# Altium schematic symbol library kmilo17pet-NSC_Switcher.SchLib: 2226 symbols (part 13 of 59)
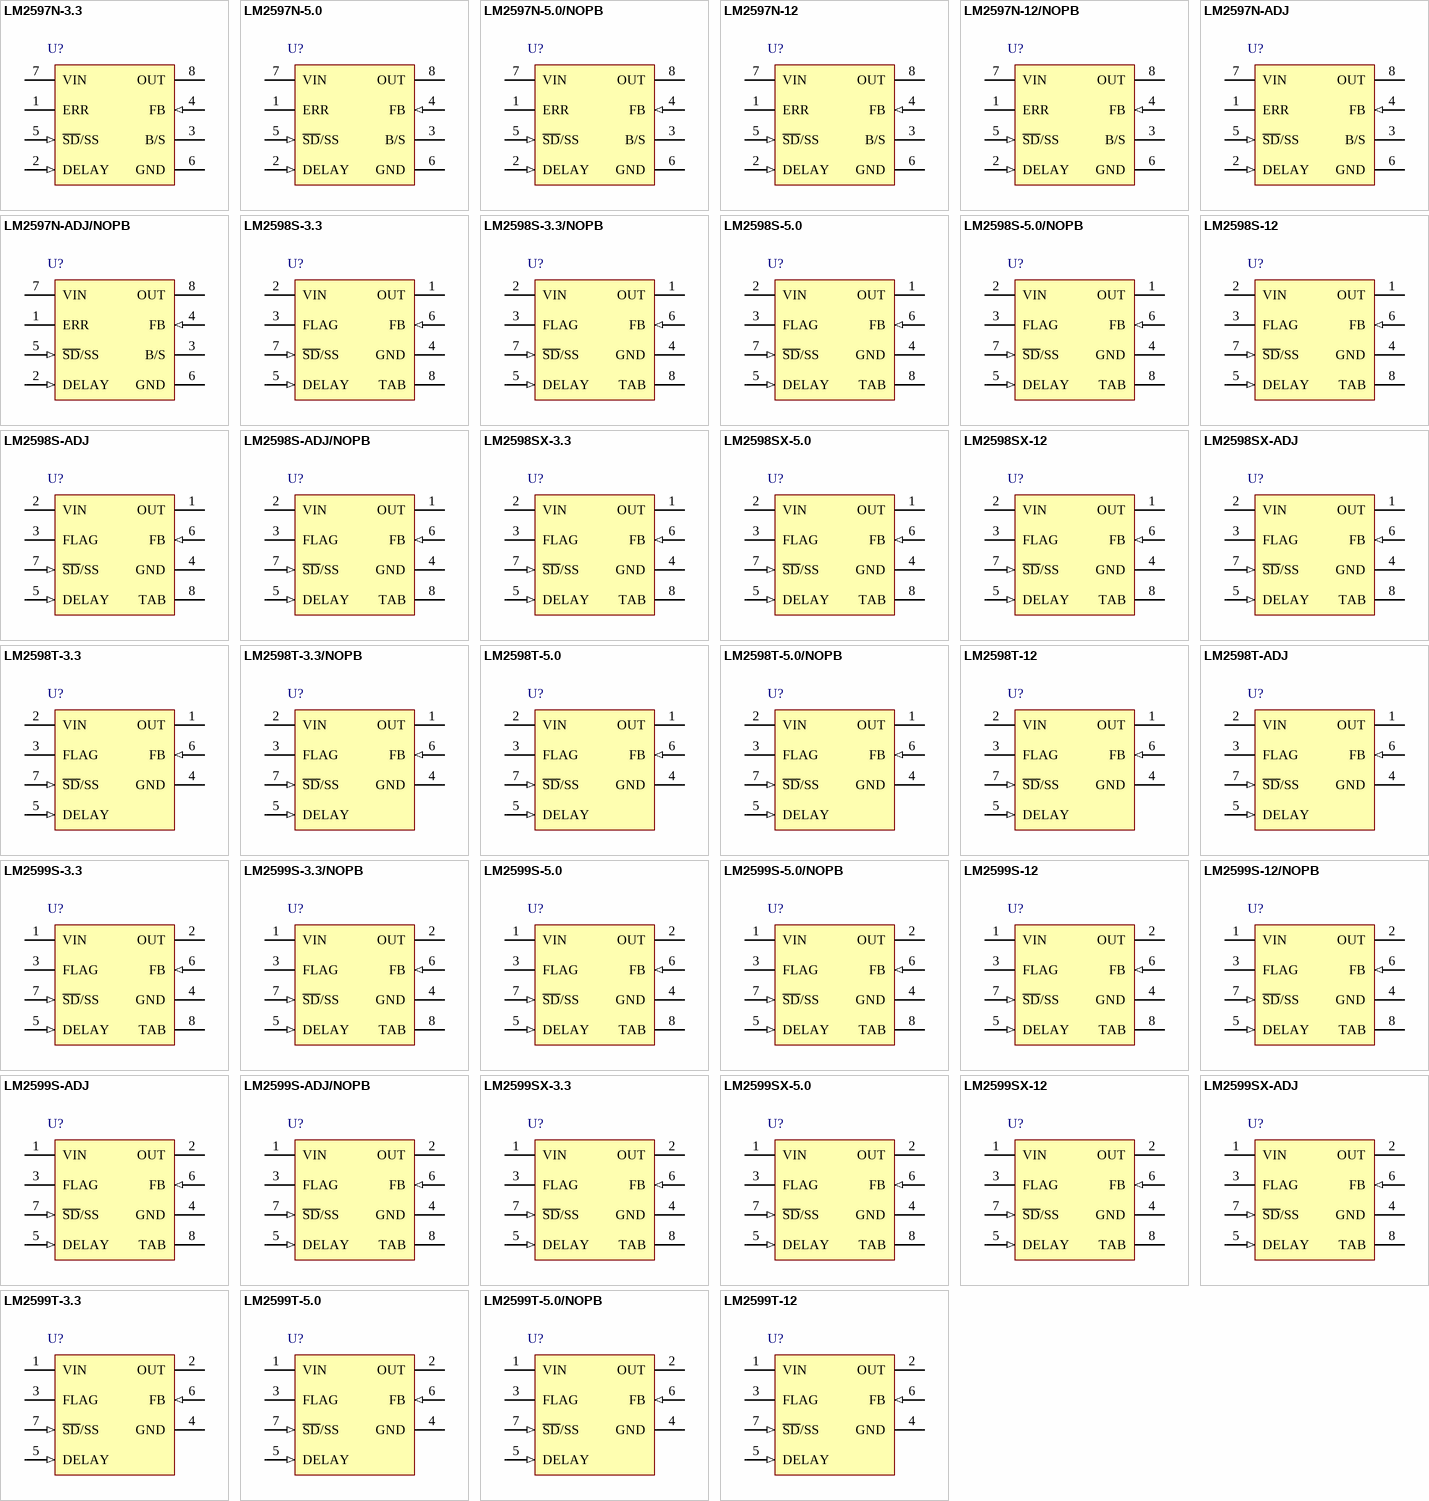
[diagram p81: symbols LM2597N-3.3 to LM2599T-12]

## LM2597N-5.0/NOPB
designator U?
SIMPLE SWITCHER® Power Converter 150 kHz 0.5A Step-Down Voltage Regulator, 8-pin MDIP, Pb-Free; PartNumber: LM2597N-5.0/NOPB; Manufacturer: National Semiconductor; PackageTopMarking: NSUZXYTTE#*LM2597N*-5.0 P+; PowerWise: N; High-Reliability: Y; DatasheetVersion: Dec-2000; PackageVersion: revG, May-2006; PackageReference: N08E; PackageDescription: MDIP, .365 x .250 x .130in, 8 Lead, .100in Pitch; RoHS: Y; PinCount: 8; CompType: Switcher; Code_JEDEC: MS-001-BA; ComponentLink1Description: Manufacturer URL; ComponentLink1URL: http://www.national.com/; ComponentLink2Description: LM2597 Datasheet; ComponentLink2URL: http://www.national.com/ds/LM/LM2597.pdf; ComponentLink3Description: LM2597 Web Page; ComponentLink3URL: http://www.national.com/pf/LM/LM2597.html; ComponentLink4Description: N08E Package Page; ComponentLink4URL: http://www.national.com/packaging/folders/n08e.html
footprint N08E (DIP, 8-Leads, Row Spacing 7.62mm, Pitch 2.54mm, Body 9.91x6.35mm)
pins: 1 ERR (oc), 2 DELAY (in), 3 B/S (power), 4 FB (in), 5 ~{SD}/SS (in), 6 GND (power), 7 VIN (power), 8 OUT (power)

## LM2597N-12
designator U?
SIMPLE SWITCHER® Power Converter 150 kHz 0.5A Step-Down Voltage Regulator, 8-pin MDIP; PartNumber: LM2597N-12; Manufacturer: National Semiconductor; PackageTopMarking: NSUZXYTTE#*LM2597N*-12 P+; PowerWise: N; High-Reliability: Y; DatasheetVersion: Dec-2000; PackageVersion: revG, May-2006; PackageReference: N08E; PackageDescription: MDIP, .365 x .250 x .130in, 8 Lead, .100in Pitch; RoHS: N; PinCount: 8; CompType: Switcher; Code_JEDEC: MS-001-BA; ComponentLink1Description: Manufacturer URL; ComponentLink1URL: http://www.national.com/; ComponentLink2Description: LM2597 Datasheet; ComponentLink2URL: http://www.national.com/ds/LM/LM2597.pdf; ComponentLink3Description: LM2597 Web Page; ComponentLink3URL: http://www.national.com/pf/LM/LM2597.html; ComponentLink4Description: N08E Package Page; ComponentLink4URL: http://www.national.com/packaging/folders/n08e.html
footprint N08E (DIP, 8-Leads, Row Spacing 7.62mm, Pitch 2.54mm, Body 9.91x6.35mm)
pins: 1 ERR (oc), 2 DELAY (in), 3 B/S (power), 4 FB (in), 5 ~{SD}/SS (in), 6 GND (power), 7 VIN (power), 8 OUT (power)

## LM2597N-12/NOPB
designator U?
SIMPLE SWITCHER® Power Converter 150 kHz 0.5A Step-Down Voltage Regulator, 8-pin MDIP, Pb-Free; PartNumber: LM2597N-12/NOPB; Manufacturer: National Semiconductor; PackageTopMarking: NSUZXYTTE#*LM2597N*-12 P+; PowerWise: N; High-Reliability: Y; DatasheetVersion: Dec-2000; PackageVersion: revG, May-2006; PackageReference: N08E; PackageDescription: MDIP, .365 x .250 x .130in, 8 Lead, .100in Pitch; RoHS: Y; PinCount: 8; CompType: Switcher; Code_JEDEC: MS-001-BA; ComponentLink1Description: Manufacturer URL; ComponentLink1URL: http://www.national.com/; ComponentLink2Description: LM2597 Datasheet; ComponentLink2URL: http://www.national.com/ds/LM/LM2597.pdf; ComponentLink3Description: LM2597 Web Page; ComponentLink3URL: http://www.national.com/pf/LM/LM2597.html; ComponentLink4Description: N08E Package Page; ComponentLink4URL: http://www.national.com/packaging/folders/n08e.html
footprint N08E (DIP, 8-Leads, Row Spacing 7.62mm, Pitch 2.54mm, Body 9.91x6.35mm)
pins: 1 ERR (oc), 2 DELAY (in), 3 B/S (power), 4 FB (in), 5 ~{SD}/SS (in), 6 GND (power), 7 VIN (power), 8 OUT (power)

## LM2597N-ADJ
designator U?
SIMPLE SWITCHER® Power Converter 150 kHz 0.5A Step-Down Voltage Regulator, 8-pin MDIP; PartNumber: LM2597N-ADJ; Manufacturer: National Semiconductor; PackageTopMarking: NSUZXYTTE#*LM2597N*-ADJ P+; PowerWise: N; High-Reliability: Y; DatasheetVersion: Dec-2000; PackageVersion: revG, May-2006; PackageReference: N08E; PackageDescription: MDIP, .365 x .250 x .130in, 8 Lead, .100in Pitch; RoHS: N; PinCount: 8; CompType: Switcher; Code_JEDEC: MS-001-BA; ComponentLink1Description: Manufacturer URL; ComponentLink1URL: http://www.national.com/; ComponentLink2Description: LM2597 Datasheet; ComponentLink2URL: http://www.national.com/ds/LM/LM2597.pdf; ComponentLink3Description: LM2597 Web Page; ComponentLink3URL: http://www.national.com/pf/LM/LM2597.html; ComponentLink4Description: N08E Package Page; ComponentLink4URL: http://www.national.com/packaging/folders/n08e.html
footprint N08E (DIP, 8-Leads, Row Spacing 7.62mm, Pitch 2.54mm, Body 9.91x6.35mm)
pins: 1 ERR (oc), 2 DELAY (in), 3 B/S (power), 4 FB (in), 5 ~{SD}/SS (in), 6 GND (power), 7 VIN (power), 8 OUT (power)

## LM2597N-ADJ/NOPB
designator U?
SIMPLE SWITCHER® Power Converter 150 kHz 0.5A Step-Down Voltage Regulator, 8-pin MDIP, Pb-Free; PartNumber: LM2597N-ADJ/NOPB; Manufacturer: National Semiconductor; PackageTopMarking: NSUZXYTTE#*LM2597N*-ADJ P+; PowerWise: N; High-Reliability: Y; DatasheetVersion: Dec-2000; PackageVersion: revG, May-2006; PackageReference: N08E; PackageDescription: MDIP, .365 x .250 x .130in, 8 Lead, .100in Pitch; RoHS: Y; PinCount: 8; CompType: Switcher; Code_JEDEC: MS-001-BA; ComponentLink1Description: Manufacturer URL; ComponentLink1URL: http://www.national.com/; ComponentLink2Description: LM2597 Datasheet; ComponentLink2URL: http://www.national.com/ds/LM/LM2597.pdf; ComponentLink3Description: LM2597 Web Page; ComponentLink3URL: http://www.national.com/pf/LM/LM2597.html; ComponentLink4Description: N08E Package Page; ComponentLink4URL: http://www.national.com/packaging/folders/n08e.html
footprint N08E (DIP, 8-Leads, Row Spacing 7.62mm, Pitch 2.54mm, Body 9.91x6.35mm)
pins: 1 ERR (oc), 2 DELAY (in), 3 B/S (power), 4 FB (in), 5 ~{SD}/SS (in), 6 GND (power), 7 VIN (power), 8 OUT (power)

## LM2598S-3.3
designator U?
SIMPLE SWITCHER® Power Converter 150 KHz 1A Step-Down Voltage Regulator with Features, 7-pin TO-263; PartNumber: LM2598S-3.3; Manufacturer: National Semiconductor; PackageTopMarking: NSUZXYTTE#*LM2598S*-3.3 P+; PowerWise: N; High-Reliability: Y; DatasheetVersion: Jan-2001; PackageVersion: revE, Jul-2003; PackageReference: TS7B; PackageDescription: TO-263, Molded, .400 x .390 x .180in Body, 7 Lead, .050in Pitch, Surface Mount; RoHS: N; PinCount: 7; CompType: Switcher; Code_JEDEC: MO-169-AC; ComponentLink1Description: Manufacturer URL; ComponentLink1URL: http://www.national.com/; ComponentLink2Description: LM2598 Datasheet; ComponentLink2URL: http://www.national.com/ds/LM/LM2598.pdf; ComponentLink3Description: LM2598 Web Page; ComponentLink3URL: http://www.national.com/pf/LM/LM2598.html; ComponentLink4Description: TS7B Package Page; ComponentLink4URL: http://www.national.com/packaging/folders/ts7b.html
footprint TS7B_N (D2-PAK, 8-Leads, Body 8.6x10.2mm, Pitch 1.27mm, Lead Span 14.1mm, IPC Medium Density)
footprint TS7B_L (D2-PAK, 8-Leads, Body 8.6x10.2mm, Pitch 1.27mm, Lead Span 14.1mm, IPC High Density)
footprint TS7B_M (D2-PAK, 8-Leads, Body 8.6x10.2mm, Pitch 1.27mm, Lead Span 14.1mm, IPC Low Density)
pins: 1 OUT (power), 2 VIN (power), 3 FLAG (oc), 4 GND (power), 5 DELAY (in), 6 FB (in), 7 ~{SD}/SS (in), 8 TAB (power)

## LM2598S-3.3/NOPB
designator U?
SIMPLE SWITCHER® Power Converter 150 KHz 1A Step-Down Voltage Regulator with Features, 7-pin TO-263, Pb-Free; PartNumber: LM2598S-3.3/NOPB; Manufacturer: National Semiconductor; PackageTopMarking: NSUZXYTTE#*LM2598S*-3.3 P+; PowerWise: N; High-Reliability: Y; DatasheetVersion: Jan-2001; PackageVersion: revE, Jul-2003; PackageReference: TS7B; PackageDescription: TO-263, Molded, .400 x .390 x .180in Body, 7 Lead, .050in Pitch, Surface Mount; RoHS: Y; PinCount: 7; CompType: Switcher; Code_JEDEC: MO-169-AC; ComponentLink1Description: Manufacturer URL; ComponentLink1URL: http://www.national.com/; ComponentLink2Description: LM2598 Datasheet; ComponentLink2URL: http://www.national.com/ds/LM/LM2598.pdf; ComponentLink3Description: LM2598 Web Page; ComponentLink3URL: http://www.national.com/pf/LM/LM2598.html; ComponentLink4Description: TS7B Package Page; ComponentLink4URL: http://www.national.com/packaging/folders/ts7b.html
footprint TS7B_N (D2-PAK, 8-Leads, Body 8.6x10.2mm, Pitch 1.27mm, Lead Span 14.1mm, IPC Medium Density)
footprint TS7B_L (D2-PAK, 8-Leads, Body 8.6x10.2mm, Pitch 1.27mm, Lead Span 14.1mm, IPC High Density)
footprint TS7B_M (D2-PAK, 8-Leads, Body 8.6x10.2mm, Pitch 1.27mm, Lead Span 14.1mm, IPC Low Density)
pins: 1 OUT (power), 2 VIN (power), 3 FLAG (oc), 4 GND (power), 5 DELAY (in), 6 FB (in), 7 ~{SD}/SS (in), 8 TAB (power)

## LM2598S-5.0
designator U?
SIMPLE SWITCHER® Power Converter 150 KHz 1A Step-Down Voltage Regulator with Features, 7-pin TO-263; PartNumber: LM2598S-5.0; Manufacturer: National Semiconductor; PackageTopMarking: NSUZXYTTE#*LM2598S*-5.0 P+; PowerWise: N; High-Reliability: Y; DatasheetVersion: Jan-2001; PackageVersion: revE, Jul-2003; PackageReference: TS7B; PackageDescription: TO-263, Molded, .400 x .390 x .180in Body, 7 Lead, .050in Pitch, Surface Mount; RoHS: N; PinCount: 7; CompType: Switcher; Code_JEDEC: MO-169-AC; ComponentLink1Description: Manufacturer URL; ComponentLink1URL: http://www.national.com/; ComponentLink2Description: LM2598 Datasheet; ComponentLink2URL: http://www.national.com/ds/LM/LM2598.pdf; ComponentLink3Description: LM2598 Web Page; ComponentLink3URL: http://www.national.com/pf/LM/LM2598.html; ComponentLink4Description: TS7B Package Page; ComponentLink4URL: http://www.national.com/packaging/folders/ts7b.html
footprint TS7B_N (D2-PAK, 8-Leads, Body 8.6x10.2mm, Pitch 1.27mm, Lead Span 14.1mm, IPC Medium Density)
footprint TS7B_L (D2-PAK, 8-Leads, Body 8.6x10.2mm, Pitch 1.27mm, Lead Span 14.1mm, IPC High Density)
footprint TS7B_M (D2-PAK, 8-Leads, Body 8.6x10.2mm, Pitch 1.27mm, Lead Span 14.1mm, IPC Low Density)
pins: 1 OUT (power), 2 VIN (power), 3 FLAG (oc), 4 GND (power), 5 DELAY (in), 6 FB (in), 7 ~{SD}/SS (in), 8 TAB (power)

## LM2598S-5.0/NOPB
designator U?
SIMPLE SWITCHER® Power Converter 150 KHz 1A Step-Down Voltage Regulator with Features, 7-pin TO-263, Pb-Free; PartNumber: LM2598S-5.0/NOPB; Manufacturer: National Semiconductor; PackageTopMarking: NSUZXYTTE#*LM2598S*-5.0 P+; PowerWise: N; High-Reliability: Y; DatasheetVersion: Jan-2001; PackageVersion: revE, Jul-2003; PackageReference: TS7B; PackageDescription: TO-263, Molded, .400 x .390 x .180in Body, 7 Lead, .050in Pitch, Surface Mount; RoHS: Y; PinCount: 7; CompType: Switcher; Code_JEDEC: MO-169-AC; ComponentLink1Description: Manufacturer URL; ComponentLink1URL: http://www.national.com/; ComponentLink2Description: LM2598 Datasheet; ComponentLink2URL: http://www.national.com/ds/LM/LM2598.pdf; ComponentLink3Description: LM2598 Web Page; ComponentLink3URL: http://www.national.com/pf/LM/LM2598.html; ComponentLink4Description: TS7B Package Page; ComponentLink4URL: http://www.national.com/packaging/folders/ts7b.html
footprint TS7B_N (D2-PAK, 8-Leads, Body 8.6x10.2mm, Pitch 1.27mm, Lead Span 14.1mm, IPC Medium Density)
footprint TS7B_L (D2-PAK, 8-Leads, Body 8.6x10.2mm, Pitch 1.27mm, Lead Span 14.1mm, IPC High Density)
footprint TS7B_M (D2-PAK, 8-Leads, Body 8.6x10.2mm, Pitch 1.27mm, Lead Span 14.1mm, IPC Low Density)
pins: 1 OUT (power), 2 VIN (power), 3 FLAG (oc), 4 GND (power), 5 DELAY (in), 6 FB (in), 7 ~{SD}/SS (in), 8 TAB (power)

## LM2598S-12
designator U?
SIMPLE SWITCHER® Power Converter 150 KHz 1A Step-Down Voltage Regulator with Features, 7-pin TO-263; PartNumber: LM2598S-12; Manufacturer: National Semiconductor; PackageTopMarking: NSUZXYTTE#*LM2598S*-12 P+; PowerWise: N; High-Reliability: Y; DatasheetVersion: Jan-2001; PackageVersion: revE, Jul-2003; PackageReference: TS7B; PackageDescription: TO-263, Molded, .400 x .390 x .180in Body, 7 Lead, .050in Pitch, Surface Mount; RoHS: N; PinCount: 7; CompType: Switcher; Code_JEDEC: MO-169-AC; ComponentLink1Description: Manufacturer URL; ComponentLink1URL: http://www.national.com/; ComponentLink2Description: LM2598 Datasheet; ComponentLink2URL: http://www.national.com/ds/LM/LM2598.pdf; ComponentLink3Description: LM2598 Web Page; ComponentLink3URL: http://www.national.com/pf/LM/LM2598.html; ComponentLink4Description: TS7B Package Page; ComponentLink4URL: http://www.national.com/packaging/folders/ts7b.html
footprint TS7B_N (D2-PAK, 8-Leads, Body 8.6x10.2mm, Pitch 1.27mm, Lead Span 14.1mm, IPC Medium Density)
footprint TS7B_L (D2-PAK, 8-Leads, Body 8.6x10.2mm, Pitch 1.27mm, Lead Span 14.1mm, IPC High Density)
footprint TS7B_M (D2-PAK, 8-Leads, Body 8.6x10.2mm, Pitch 1.27mm, Lead Span 14.1mm, IPC Low Density)
pins: 1 OUT (power), 2 VIN (power), 3 FLAG (oc), 4 GND (power), 5 DELAY (in), 6 FB (in), 7 ~{SD}/SS (in), 8 TAB (power)

## LM2598S-ADJ
designator U?
SIMPLE SWITCHER® Power Converter 150 KHz 1A Step-Down Voltage Regulator with Features, 7-pin TO-263; PartNumber: LM2598S-ADJ; Manufacturer: National Semiconductor; PackageTopMarking: NSUZXYTTE#*LM2598S*-ADJ P+; PowerWise: N; High-Reliability: Y; DatasheetVersion: Jan-2001; PackageVersion: revE, Jul-2003; PackageReference: TS7B; PackageDescription: TO-263, Molded, .400 x .390 x .180in Body, 7 Lead, .050in Pitch, Surface Mount; RoHS: N; PinCount: 7; CompType: Switcher; Code_JEDEC: MO-169-AC; ComponentLink1Description: Manufacturer URL; ComponentLink1URL: http://www.national.com/; ComponentLink2Description: LM2598 Datasheet; ComponentLink2URL: http://www.national.com/ds/LM/LM2598.pdf; ComponentLink3Description: LM2598 Web Page; ComponentLink3URL: http://www.national.com/pf/LM/LM2598.html; ComponentLink4Description: TS7B Package Page; ComponentLink4URL: http://www.national.com/packaging/folders/ts7b.html
footprint TS7B_N (D2-PAK, 8-Leads, Body 8.6x10.2mm, Pitch 1.27mm, Lead Span 14.1mm, IPC Medium Density)
footprint TS7B_L (D2-PAK, 8-Leads, Body 8.6x10.2mm, Pitch 1.27mm, Lead Span 14.1mm, IPC High Density)
footprint TS7B_M (D2-PAK, 8-Leads, Body 8.6x10.2mm, Pitch 1.27mm, Lead Span 14.1mm, IPC Low Density)
pins: 1 OUT (power), 2 VIN (power), 3 FLAG (oc), 4 GND (power), 5 DELAY (in), 6 FB (in), 7 ~{SD}/SS (in), 8 TAB (power)

## LM2598S-ADJ/NOPB
designator U?
SIMPLE SWITCHER® Power Converter 150 KHz 1A Step-Down Voltage Regulator with Features, 7-pin TO-263, Pb-Free; PartNumber: LM2598S-ADJ/NOPB; Manufacturer: National Semiconductor; PackageTopMarking: NSUZXYTTE#*LM2598S*-ADJ P+; PowerWise: N; High-Reliability: Y; DatasheetVersion: Jan-2001; PackageVersion: revE, Jul-2003; PackageReference: TS7B; PackageDescription: TO-263, Molded, .400 x .390 x .180in Body, 7 Lead, .050in Pitch, Surface Mount; RoHS: Y; PinCount: 7; CompType: Switcher; Code_JEDEC: MO-169-AC; ComponentLink1Description: Manufacturer URL; ComponentLink1URL: http://www.national.com/; ComponentLink2Description: LM2598 Datasheet; ComponentLink2URL: http://www.national.com/ds/LM/LM2598.pdf; ComponentLink3Description: LM2598 Web Page; ComponentLink3URL: http://www.national.com/pf/LM/LM2598.html; ComponentLink4Description: TS7B Package Page; ComponentLink4URL: http://www.national.com/packaging/folders/ts7b.html
footprint TS7B_N (D2-PAK, 8-Leads, Body 8.6x10.2mm, Pitch 1.27mm, Lead Span 14.1mm, IPC Medium Density)
footprint TS7B_L (D2-PAK, 8-Leads, Body 8.6x10.2mm, Pitch 1.27mm, Lead Span 14.1mm, IPC High Density)
footprint TS7B_M (D2-PAK, 8-Leads, Body 8.6x10.2mm, Pitch 1.27mm, Lead Span 14.1mm, IPC Low Density)
pins: 1 OUT (power), 2 VIN (power), 3 FLAG (oc), 4 GND (power), 5 DELAY (in), 6 FB (in), 7 ~{SD}/SS (in), 8 TAB (power)

## LM2598SX-3.3
designator U?
SIMPLE SWITCHER® Power Converter 150 KHz 1A Step-Down Voltage Regulator with Features, 7-pin TO-263; PartNumber: LM2598SX-3.3; Manufacturer: National Semiconductor; PackageTopMarking: NSUZXYTTE#*LM2598S*-3.3 P+; PowerWise: N; High-Reliability: Y; DatasheetVersion: Jan-2001; PackageVersion: revE, Jul-2003; PackageReference: TS7B; PackageDescription: TO-263, Molded, .400 x .390 x .180in Body, 7 Lead, .050in Pitch, Surface Mount; RoHS: N; PinCount: 7; CompType: Switcher; Code_JEDEC: MO-169-AC; ComponentLink1Description: Manufacturer URL; ComponentLink1URL: http://www.national.com/; ComponentLink2Description: LM2598 Datasheet; ComponentLink2URL: http://www.national.com/ds/LM/LM2598.pdf; ComponentLink3Description: LM2598 Web Page; ComponentLink3URL: http://www.national.com/pf/LM/LM2598.html; ComponentLink4Description: TS7B Package Page; ComponentLink4URL: http://www.national.com/packaging/folders/ts7b.html
footprint TS7B_N (D2-PAK, 8-Leads, Body 8.6x10.2mm, Pitch 1.27mm, Lead Span 14.1mm, IPC Medium Density)
footprint TS7B_L (D2-PAK, 8-Leads, Body 8.6x10.2mm, Pitch 1.27mm, Lead Span 14.1mm, IPC High Density)
footprint TS7B_M (D2-PAK, 8-Leads, Body 8.6x10.2mm, Pitch 1.27mm, Lead Span 14.1mm, IPC Low Density)
pins: 1 OUT (power), 2 VIN (power), 3 FLAG (oc), 4 GND (power), 5 DELAY (in), 6 FB (in), 7 ~{SD}/SS (in), 8 TAB (power)

## LM2598SX-5.0
designator U?
SIMPLE SWITCHER® Power Converter 150 KHz 1A Step-Down Voltage Regulator with Features, 7-pin TO-263; PartNumber: LM2598SX-5.0; Manufacturer: National Semiconductor; PackageTopMarking: NSUZXYTTE#*LM2598S*-5.0 P+; PowerWise: N; High-Reliability: Y; DatasheetVersion: Jan-2001; PackageVersion: revE, Jul-2003; PackageReference: TS7B; PackageDescription: TO-263, Molded, .400 x .390 x .180in Body, 7 Lead, .050in Pitch, Surface Mount; RoHS: N; PinCount: 7; CompType: Switcher; Code_JEDEC: MO-169-AC; ComponentLink1Description: Manufacturer URL; ComponentLink1URL: http://www.national.com/; ComponentLink2Description: LM2598 Datasheet; ComponentLink2URL: http://www.national.com/ds/LM/LM2598.pdf; ComponentLink3Description: LM2598 Web Page; ComponentLink3URL: http://www.national.com/pf/LM/LM2598.html; ComponentLink4Description: TS7B Package Page; ComponentLink4URL: http://www.national.com/packaging/folders/ts7b.html
footprint TS7B_N (D2-PAK, 8-Leads, Body 8.6x10.2mm, Pitch 1.27mm, Lead Span 14.1mm, IPC Medium Density)
footprint TS7B_L (D2-PAK, 8-Leads, Body 8.6x10.2mm, Pitch 1.27mm, Lead Span 14.1mm, IPC High Density)
footprint TS7B_M (D2-PAK, 8-Leads, Body 8.6x10.2mm, Pitch 1.27mm, Lead Span 14.1mm, IPC Low Density)
pins: 1 OUT (power), 2 VIN (power), 3 FLAG (oc), 4 GND (power), 5 DELAY (in), 6 FB (in), 7 ~{SD}/SS (in), 8 TAB (power)

## LM2598SX-12
designator U?
SIMPLE SWITCHER® Power Converter 150 KHz 1A Step-Down Voltage Regulator with Features, 7-pin TO-263; PartNumber: LM2598SX-12; Manufacturer: National Semiconductor; PackageTopMarking: NSUZXYTTE#*LM2598S*-12 P+; PowerWise: N; High-Reliability: Y; DatasheetVersion: Jan-2001; PackageVersion: revE, Jul-2003; PackageReference: TS7B; PackageDescription: TO-263, Molded, .400 x .390 x .180in Body, 7 Lead, .050in Pitch, Surface Mount; RoHS: N; PinCount: 7; CompType: Switcher; Code_JEDEC: MO-169-AC; ComponentLink1Description: Manufacturer URL; ComponentLink1URL: http://www.national.com/; ComponentLink2Description: LM2598 Datasheet; ComponentLink2URL: http://www.national.com/ds/LM/LM2598.pdf; ComponentLink3Description: LM2598 Web Page; ComponentLink3URL: http://www.national.com/pf/LM/LM2598.html; ComponentLink4Description: TS7B Package Page; ComponentLink4URL: http://www.national.com/packaging/folders/ts7b.html
footprint TS7B_N (D2-PAK, 8-Leads, Body 8.6x10.2mm, Pitch 1.27mm, Lead Span 14.1mm, IPC Medium Density)
footprint TS7B_L (D2-PAK, 8-Leads, Body 8.6x10.2mm, Pitch 1.27mm, Lead Span 14.1mm, IPC High Density)
footprint TS7B_M (D2-PAK, 8-Leads, Body 8.6x10.2mm, Pitch 1.27mm, Lead Span 14.1mm, IPC Low Density)
pins: 1 OUT (power), 2 VIN (power), 3 FLAG (oc), 4 GND (power), 5 DELAY (in), 6 FB (in), 7 ~{SD}/SS (in), 8 TAB (power)

## LM2598SX-ADJ
designator U?
SIMPLE SWITCHER® Power Converter 150 KHz 1A Step-Down Voltage Regulator with Features, 7-pin TO-263; PartNumber: LM2598SX-ADJ; Manufacturer: National Semiconductor; PackageTopMarking: NSUZXYTTE#*LM2598S*-ADJ P+; PowerWise: N; High-Reliability: Y; DatasheetVersion: Jan-2001; PackageVersion: revE, Jul-2003; PackageReference: TS7B; PackageDescription: TO-263, Molded, .400 x .390 x .180in Body, 7 Lead, .050in Pitch, Surface Mount; RoHS: N; PinCount: 7; CompType: Switcher; Code_JEDEC: MO-169-AC; ComponentLink1Description: Manufacturer URL; ComponentLink1URL: http://www.national.com/; ComponentLink2Description: LM2598 Datasheet; ComponentLink2URL: http://www.national.com/ds/LM/LM2598.pdf; ComponentLink3Description: LM2598 Web Page; ComponentLink3URL: http://www.national.com/pf/LM/LM2598.html; ComponentLink4Description: TS7B Package Page; ComponentLink4URL: http://www.national.com/packaging/folders/ts7b.html
footprint TS7B_N (D2-PAK, 8-Leads, Body 8.6x10.2mm, Pitch 1.27mm, Lead Span 14.1mm, IPC Medium Density)
footprint TS7B_L (D2-PAK, 8-Leads, Body 8.6x10.2mm, Pitch 1.27mm, Lead Span 14.1mm, IPC High Density)
footprint TS7B_M (D2-PAK, 8-Leads, Body 8.6x10.2mm, Pitch 1.27mm, Lead Span 14.1mm, IPC Low Density)
pins: 1 OUT (power), 2 VIN (power), 3 FLAG (oc), 4 GND (power), 5 DELAY (in), 6 FB (in), 7 ~{SD}/SS (in), 8 TAB (power)

## LM2598T-3.3
designator U?
SIMPLE SWITCHER® Power Converter 150 KHz 1A Step-Down Voltage Regulator with Features, 7-pin TO-220; PartNumber: LM2598T-3.3; Manufacturer: National Semiconductor; PackageTopMarking: NSUZXYTTE#*LM2598T*-3.3 P+; PowerWise: N; High-Reliability: Y; DatasheetVersion: Jan-2001; PackageVersion: revC, Apr-1999; PackageReference: TA07B; PackageDescription: TO-220, Molded, .400 x .590 x .180in Body, 7 Lead, .050in Pitch, Staggered; RoHS: N; PinCount: 7; CompType: Switcher; Code_JEDEC: TO-220-AB; ComponentLink1Description: Manufacturer URL; ComponentLink1URL: http://www.national.com/; ComponentLink2Description: LM2598 Datasheet; ComponentLink2URL: http://www.national.com/ds/LM/LM2598.pdf; ComponentLink3Description: LM2598 Web Page; ComponentLink3URL: http://www.national.com/pf/LM/LM2598.html; ComponentLink4Description: TA07B Package Page; ComponentLink4URL: http://www.national.com/packaging/folders/ta07b.html
footprint TA07B (TO, Thru-Hole, Vertical, Heatsink Mounted; 7 Bent Staggered Leads; Body 10.2x8.7x4.6mm, Pitch 1.27 mm)
pins: 1 OUT (power), 2 VIN (power), 3 FLAG (oc), 4 GND (power), 5 DELAY (in), 6 FB (in), 7 ~{SD}/SS (in)

## LM2598T-3.3/NOPB
designator U?
SIMPLE SWITCHER® Power Converter 150 KHz 1A Step-Down Voltage Regulator with Features, 7-pin TO-220, Pb-Free; PartNumber: LM2598T-3.3/NOPB; Manufacturer: National Semiconductor; PackageTopMarking: NSUZXYTTE#*LM2598T*-3.3 P+; PowerWise: N; High-Reliability: Y; DatasheetVersion: Jan-2001; PackageVersion: revC, Apr-1999; PackageReference: TA07B; PackageDescription: TO-220, Molded, .400 x .590 x .180in Body, 7 Lead, .050in Pitch, Staggered; RoHS: Y; PinCount: 7; CompType: Switcher; Code_JEDEC: TO-220-AB; ComponentLink1Description: Manufacturer URL; ComponentLink1URL: http://www.national.com/; ComponentLink2Description: LM2598 Datasheet; ComponentLink2URL: http://www.national.com/ds/LM/LM2598.pdf; ComponentLink3Description: LM2598 Web Page; ComponentLink3URL: http://www.national.com/pf/LM/LM2598.html; ComponentLink4Description: TA07B Package Page; ComponentLink4URL: http://www.national.com/packaging/folders/ta07b.html
footprint TA07B (TO, Thru-Hole, Vertical, Heatsink Mounted; 7 Bent Staggered Leads; Body 10.2x8.7x4.6mm, Pitch 1.27 mm)
pins: 1 OUT (power), 2 VIN (power), 3 FLAG (oc), 4 GND (power), 5 DELAY (in), 6 FB (in), 7 ~{SD}/SS (in)

## LM2598T-5.0
designator U?
SIMPLE SWITCHER® Power Converter 150 KHz 1A Step-Down Voltage Regulator with Features, 7-pin TO-220; PartNumber: LM2598T-5.0; Manufacturer: National Semiconductor; PackageTopMarking: NSUZXYTTE#*LM2598T*-5.0 P+; PowerWise: N; High-Reliability: Y; DatasheetVersion: Jan-2001; PackageVersion: revC, Apr-1999; PackageReference: TA07B; PackageDescription: TO-220, Molded, .400 x .590 x .180in Body, 7 Lead, .050in Pitch, Staggered; RoHS: N; PinCount: 7; CompType: Switcher; Code_JEDEC: TO-220-AB; ComponentLink1Description: Manufacturer URL; ComponentLink1URL: http://www.national.com/; ComponentLink2Description: LM2598 Datasheet; ComponentLink2URL: http://www.national.com/ds/LM/LM2598.pdf; ComponentLink3Description: LM2598 Web Page; ComponentLink3URL: http://www.national.com/pf/LM/LM2598.html; ComponentLink4Description: TA07B Package Page; ComponentLink4URL: http://www.national.com/packaging/folders/ta07b.html
footprint TA07B (TO, Thru-Hole, Vertical, Heatsink Mounted; 7 Bent Staggered Leads; Body 10.2x8.7x4.6mm, Pitch 1.27 mm)
pins: 1 OUT (power), 2 VIN (power), 3 FLAG (oc), 4 GND (power), 5 DELAY (in), 6 FB (in), 7 ~{SD}/SS (in)

## LM2598T-5.0/NOPB
designator U?
SIMPLE SWITCHER® Power Converter 150 KHz 1A Step-Down Voltage Regulator with Features, 7-pin TO-220, Pb-Free; PartNumber: LM2598T-5.0/NOPB; Manufacturer: National Semiconductor; PackageTopMarking: NSUZXYTTE#*LM2598T*-5.0 P+; PowerWise: N; High-Reliability: Y; DatasheetVersion: Jan-2001; PackageVersion: revC, Apr-1999; PackageReference: TA07B; PackageDescription: TO-220, Molded, .400 x .590 x .180in Body, 7 Lead, .050in Pitch, Staggered; RoHS: Y; PinCount: 7; CompType: Switcher; Code_JEDEC: TO-220-AB; ComponentLink1Description: Manufacturer URL; ComponentLink1URL: http://www.national.com/; ComponentLink2Description: LM2598 Datasheet; ComponentLink2URL: http://www.national.com/ds/LM/LM2598.pdf; ComponentLink3Description: LM2598 Web Page; ComponentLink3URL: http://www.national.com/pf/LM/LM2598.html; ComponentLink4Description: TA07B Package Page; ComponentLink4URL: http://www.national.com/packaging/folders/ta07b.html
footprint TA07B (TO, Thru-Hole, Vertical, Heatsink Mounted; 7 Bent Staggered Leads; Body 10.2x8.7x4.6mm, Pitch 1.27 mm)
pins: 1 OUT (power), 2 VIN (power), 3 FLAG (oc), 4 GND (power), 5 DELAY (in), 6 FB (in), 7 ~{SD}/SS (in)

## LM2598T-12
designator U?
SIMPLE SWITCHER® Power Converter 150 KHz 1A Step-Down Voltage Regulator with Features, 7-pin TO-220; PartNumber: LM2598T-12; Manufacturer: National Semiconductor; PackageTopMarking: NSUZXYTTE#*LM2598T*-12 P+; PowerWise: N; High-Reliability: Y; DatasheetVersion: Jan-2001; PackageVersion: revC, Apr-1999; PackageReference: TA07B; PackageDescription: TO-220, Molded, .400 x .590 x .180in Body, 7 Lead, .050in Pitch, Staggered; RoHS: N; PinCount: 7; CompType: Switcher; Code_JEDEC: TO-220-AB; ComponentLink1Description: Manufacturer URL; ComponentLink1URL: http://www.national.com/; ComponentLink2Description: LM2598 Datasheet; ComponentLink2URL: http://www.national.com/ds/LM/LM2598.pdf; ComponentLink3Description: LM2598 Web Page; ComponentLink3URL: http://www.national.com/pf/LM/LM2598.html; ComponentLink4Description: TA07B Package Page; ComponentLink4URL: http://www.national.com/packaging/folders/ta07b.html
footprint TA07B (TO, Thru-Hole, Vertical, Heatsink Mounted; 7 Bent Staggered Leads; Body 10.2x8.7x4.6mm, Pitch 1.27 mm)
pins: 1 OUT (power), 2 VIN (power), 3 FLAG (oc), 4 GND (power), 5 DELAY (in), 6 FB (in), 7 ~{SD}/SS (in)

## LM2598T-ADJ
designator U?
SIMPLE SWITCHER® Power Converter 150 KHz 1A Step-Down Voltage Regulator with Features, 7-pin TO-220; PartNumber: LM2598T-ADJ; Manufacturer: National Semiconductor; PackageTopMarking: NSUZXYTTE#*LM2598T*-ADJ P+; PowerWise: N; High-Reliability: Y; DatasheetVersion: Jan-2001; PackageVersion: revC, Apr-1999; PackageReference: TA07B; PackageDescription: TO-220, Molded, .400 x .590 x .180in Body, 7 Lead, .050in Pitch, Staggered; RoHS: N; PinCount: 7; CompType: Switcher; Code_JEDEC: TO-220-AB; ComponentLink1Description: Manufacturer URL; ComponentLink1URL: http://www.national.com/; ComponentLink2Description: LM2598 Datasheet; ComponentLink2URL: http://www.national.com/ds/LM/LM2598.pdf; ComponentLink3Description: LM2598 Web Page; ComponentLink3URL: http://www.national.com/pf/LM/LM2598.html; ComponentLink4Description: TA07B Package Page; ComponentLink4URL: http://www.national.com/packaging/folders/ta07b.html
footprint TA07B (TO, Thru-Hole, Vertical, Heatsink Mounted; 7 Bent Staggered Leads; Body 10.2x8.7x4.6mm, Pitch 1.27 mm)
pins: 1 OUT (power), 2 VIN (power), 3 FLAG (oc), 4 GND (power), 5 DELAY (in), 6 FB (in), 7 ~{SD}/SS (in)

## LM2599S-3.3
designator U?
SIMPLE SWITCHER® Power Converter 150 KHz 3A Step-Down Voltage Regulator with Features, 7-pin TO-263; PartNumber: LM2599S-3.3; Manufacturer: National Semiconductor; PackageTopMarking: NSUZXYTTE#*LM2599S*-3.3 P+; PowerWise: N; High-Reliability: Y; DatasheetVersion: Dec-2000; PackageVersion: revE, Jul-2003; PackageReference: TS7B; PackageDescription: TO-263, Molded, .400 x .390 x .180in Body, 7 Lead, .050in Pitch, Surface Mount; RoHS: N; PinCount: 7; CompType: Switcher; Code_JEDEC: MO-169-AC; ComponentLink1Description: Manufacturer URL; ComponentLink1URL: http://www.national.com/; ComponentLink2Description: LM2599 Datasheet; ComponentLink2URL: http://www.national.com/ds/LM/LM2599.pdf; ComponentLink3Description: LM2599 Web Page; ComponentLink3URL: http://www.national.com/pf/LM/LM2599.html; ComponentLink4Description: TS7B Package Page; ComponentLink4URL: http://www.national.com/packaging/folders/ts7b.html
footprint TS7B_N (D2-PAK, 8-Leads, Body 8.6x10.2mm, Pitch 1.27mm, Lead Span 14.1mm, IPC Medium Density)
footprint TS7B_L (D2-PAK, 8-Leads, Body 8.6x10.2mm, Pitch 1.27mm, Lead Span 14.1mm, IPC High Density)
footprint TS7B_M (D2-PAK, 8-Leads, Body 8.6x10.2mm, Pitch 1.27mm, Lead Span 14.1mm, IPC Low Density)
pins: 1 VIN (power), 2 OUT (power), 3 FLAG (oc), 4 GND (power), 5 DELAY (in), 6 FB (in), 7 ~{SD}/SS (in), 8 TAB (power)

## LM2599S-3.3/NOPB
designator U?
SIMPLE SWITCHER® Power Converter 150 KHz 3A Step-Down Voltage Regulator with Features, 7-pin TO-263, Pb-Free; PartNumber: LM2599S-3.3/NOPB; Manufacturer: National Semiconductor; PackageTopMarking: NSUZXYTTE#*LM2599S*-3.3 P+; PowerWise: N; High-Reliability: Y; DatasheetVersion: Dec-2000; PackageVersion: revE, Jul-2003; PackageReference: TS7B; PackageDescription: TO-263, Molded, .400 x .390 x .180in Body, 7 Lead, .050in Pitch, Surface Mount; RoHS: Y; PinCount: 7; CompType: Switcher; Code_JEDEC: MO-169-AC; ComponentLink1Description: Manufacturer URL; ComponentLink1URL: http://www.national.com/; ComponentLink2Description: LM2599 Datasheet; ComponentLink2URL: http://www.national.com/ds/LM/LM2599.pdf; ComponentLink3Description: LM2599 Web Page; ComponentLink3URL: http://www.national.com/pf/LM/LM2599.html; ComponentLink4Description: TS7B Package Page; ComponentLink4URL: http://www.national.com/packaging/folders/ts7b.html
footprint TS7B_N (D2-PAK, 8-Leads, Body 8.6x10.2mm, Pitch 1.27mm, Lead Span 14.1mm, IPC Medium Density)
footprint TS7B_L (D2-PAK, 8-Leads, Body 8.6x10.2mm, Pitch 1.27mm, Lead Span 14.1mm, IPC High Density)
footprint TS7B_M (D2-PAK, 8-Leads, Body 8.6x10.2mm, Pitch 1.27mm, Lead Span 14.1mm, IPC Low Density)
pins: 1 VIN (power), 2 OUT (power), 3 FLAG (oc), 4 GND (power), 5 DELAY (in), 6 FB (in), 7 ~{SD}/SS (in), 8 TAB (power)

## LM2599S-5.0
designator U?
SIMPLE SWITCHER® Power Converter 150 KHz 3A Step-Down Voltage Regulator with Features, 7-pin TO-263; PartNumber: LM2599S-5.0; Manufacturer: National Semiconductor; PackageTopMarking: NSUZXYTTE#*LM2599S*-5.0 P+; PowerWise: N; High-Reliability: Y; DatasheetVersion: Dec-2000; PackageVersion: revE, Jul-2003; PackageReference: TS7B; PackageDescription: TO-263, Molded, .400 x .390 x .180in Body, 7 Lead, .050in Pitch, Surface Mount; RoHS: N; PinCount: 7; CompType: Switcher; Code_JEDEC: MO-169-AC; ComponentLink1Description: Manufacturer URL; ComponentLink1URL: http://www.national.com/; ComponentLink2Description: LM2599 Datasheet; ComponentLink2URL: http://www.national.com/ds/LM/LM2599.pdf; ComponentLink3Description: LM2599 Web Page; ComponentLink3URL: http://www.national.com/pf/LM/LM2599.html; ComponentLink4Description: TS7B Package Page; ComponentLink4URL: http://www.national.com/packaging/folders/ts7b.html
footprint TS7B_N (D2-PAK, 8-Leads, Body 8.6x10.2mm, Pitch 1.27mm, Lead Span 14.1mm, IPC Medium Density)
footprint TS7B_L (D2-PAK, 8-Leads, Body 8.6x10.2mm, Pitch 1.27mm, Lead Span 14.1mm, IPC High Density)
footprint TS7B_M (D2-PAK, 8-Leads, Body 8.6x10.2mm, Pitch 1.27mm, Lead Span 14.1mm, IPC Low Density)
pins: 1 VIN (power), 2 OUT (power), 3 FLAG (oc), 4 GND (power), 5 DELAY (in), 6 FB (in), 7 ~{SD}/SS (in), 8 TAB (power)

## LM2599S-5.0/NOPB
designator U?
SIMPLE SWITCHER® Power Converter 150 KHz 3A Step-Down Voltage Regulator with Features, 7-pin TO-263, Pb-Free; PartNumber: LM2599S-5.0/NOPB; Manufacturer: National Semiconductor; PackageTopMarking: NSUZXYTTE#*LM2599S*-5.0 P+; PowerWise: N; High-Reliability: Y; DatasheetVersion: Dec-2000; PackageVersion: revE, Jul-2003; PackageReference: TS7B; PackageDescription: TO-263, Molded, .400 x .390 x .180in Body, 7 Lead, .050in Pitch, Surface Mount; RoHS: Y; PinCount: 7; CompType: Switcher; Code_JEDEC: MO-169-AC; ComponentLink1Description: Manufacturer URL; ComponentLink1URL: http://www.national.com/; ComponentLink2Description: LM2599 Datasheet; ComponentLink2URL: http://www.national.com/ds/LM/LM2599.pdf; ComponentLink3Description: LM2599 Web Page; ComponentLink3URL: http://www.national.com/pf/LM/LM2599.html; ComponentLink4Description: TS7B Package Page; ComponentLink4URL: http://www.national.com/packaging/folders/ts7b.html
footprint TS7B_N (D2-PAK, 8-Leads, Body 8.6x10.2mm, Pitch 1.27mm, Lead Span 14.1mm, IPC Medium Density)
footprint TS7B_L (D2-PAK, 8-Leads, Body 8.6x10.2mm, Pitch 1.27mm, Lead Span 14.1mm, IPC High Density)
footprint TS7B_M (D2-PAK, 8-Leads, Body 8.6x10.2mm, Pitch 1.27mm, Lead Span 14.1mm, IPC Low Density)
pins: 1 VIN (power), 2 OUT (power), 3 FLAG (oc), 4 GND (power), 5 DELAY (in), 6 FB (in), 7 ~{SD}/SS (in), 8 TAB (power)

## LM2599S-12
designator U?
SIMPLE SWITCHER® Power Converter 150 KHz 3A Step-Down Voltage Regulator with Features, 7-pin TO-263; PartNumber: LM2599S-12; Manufacturer: National Semiconductor; PackageTopMarking: NSUZXYTTE#*LM2599S*-12 P+; PowerWise: N; High-Reliability: Y; DatasheetVersion: Dec-2000; PackageVersion: revE, Jul-2003; PackageReference: TS7B; PackageDescription: TO-263, Molded, .400 x .390 x .180in Body, 7 Lead, .050in Pitch, Surface Mount; RoHS: N; PinCount: 7; CompType: Switcher; Code_JEDEC: MO-169-AC; ComponentLink1Description: Manufacturer URL; ComponentLink1URL: http://www.national.com/; ComponentLink2Description: LM2599 Datasheet; ComponentLink2URL: http://www.national.com/ds/LM/LM2599.pdf; ComponentLink3Description: LM2599 Web Page; ComponentLink3URL: http://www.national.com/pf/LM/LM2599.html; ComponentLink4Description: TS7B Package Page; ComponentLink4URL: http://www.national.com/packaging/folders/ts7b.html
footprint TS7B_N (D2-PAK, 8-Leads, Body 8.6x10.2mm, Pitch 1.27mm, Lead Span 14.1mm, IPC Medium Density)
footprint TS7B_L (D2-PAK, 8-Leads, Body 8.6x10.2mm, Pitch 1.27mm, Lead Span 14.1mm, IPC High Density)
footprint TS7B_M (D2-PAK, 8-Leads, Body 8.6x10.2mm, Pitch 1.27mm, Lead Span 14.1mm, IPC Low Density)
pins: 1 VIN (power), 2 OUT (power), 3 FLAG (oc), 4 GND (power), 5 DELAY (in), 6 FB (in), 7 ~{SD}/SS (in), 8 TAB (power)

## LM2599S-12/NOPB
designator U?
SIMPLE SWITCHER® Power Converter 150 KHz 3A Step-Down Voltage Regulator with Features, 7-pin TO-263, Pb-Free; PartNumber: LM2599S-12/NOPB; Manufacturer: National Semiconductor; PackageTopMarking: NSUZXYTTE#*LM2599S*-12 P+; PowerWise: N; High-Reliability: Y; DatasheetVersion: Dec-2000; PackageVersion: revE, Jul-2003; PackageReference: TS7B; PackageDescription: TO-263, Molded, .400 x .390 x .180in Body, 7 Lead, .050in Pitch, Surface Mount; RoHS: Y; PinCount: 7; CompType: Switcher; Code_JEDEC: MO-169-AC; ComponentLink1Description: Manufacturer URL; ComponentLink1URL: http://www.national.com/; ComponentLink2Description: LM2599 Datasheet; ComponentLink2URL: http://www.national.com/ds/LM/LM2599.pdf; ComponentLink3Description: LM2599 Web Page; ComponentLink3URL: http://www.national.com/pf/LM/LM2599.html; ComponentLink4Description: TS7B Package Page; ComponentLink4URL: http://www.national.com/packaging/folders/ts7b.html
footprint TS7B_N (D2-PAK, 8-Leads, Body 8.6x10.2mm, Pitch 1.27mm, Lead Span 14.1mm, IPC Medium Density)
footprint TS7B_L (D2-PAK, 8-Leads, Body 8.6x10.2mm, Pitch 1.27mm, Lead Span 14.1mm, IPC High Density)
footprint TS7B_M (D2-PAK, 8-Leads, Body 8.6x10.2mm, Pitch 1.27mm, Lead Span 14.1mm, IPC Low Density)
pins: 1 VIN (power), 2 OUT (power), 3 FLAG (oc), 4 GND (power), 5 DELAY (in), 6 FB (in), 7 ~{SD}/SS (in), 8 TAB (power)

## LM2599S-ADJ
designator U?
SIMPLE SWITCHER® Power Converter 150 KHz 3A Step-Down Voltage Regulator with Features, 7-pin TO-263; PartNumber: LM2599S-ADJ; Manufacturer: National Semiconductor; PackageTopMarking: NSUZXYTTE#*LM2599S*-ADJ P+; PowerWise: N; High-Reliability: Y; DatasheetVersion: Dec-2000; PackageVersion: revE, Jul-2003; PackageReference: TS7B; PackageDescription: TO-263, Molded, .400 x .390 x .180in Body, 7 Lead, .050in Pitch, Surface Mount; RoHS: N; PinCount: 7; CompType: Switcher; Code_JEDEC: MO-169-AC; ComponentLink1Description: Manufacturer URL; ComponentLink1URL: http://www.national.com/; ComponentLink2Description: LM2599 Datasheet; ComponentLink2URL: http://www.national.com/ds/LM/LM2599.pdf; ComponentLink3Description: LM2599 Web Page; ComponentLink3URL: http://www.national.com/pf/LM/LM2599.html; ComponentLink4Description: TS7B Package Page; ComponentLink4URL: http://www.national.com/packaging/folders/ts7b.html
footprint TS7B_N (D2-PAK, 8-Leads, Body 8.6x10.2mm, Pitch 1.27mm, Lead Span 14.1mm, IPC Medium Density)
footprint TS7B_L (D2-PAK, 8-Leads, Body 8.6x10.2mm, Pitch 1.27mm, Lead Span 14.1mm, IPC High Density)
footprint TS7B_M (D2-PAK, 8-Leads, Body 8.6x10.2mm, Pitch 1.27mm, Lead Span 14.1mm, IPC Low Density)
pins: 1 VIN (power), 2 OUT (power), 3 FLAG (oc), 4 GND (power), 5 DELAY (in), 6 FB (in), 7 ~{SD}/SS (in), 8 TAB (power)

## LM2599S-ADJ/NOPB
designator U?
SIMPLE SWITCHER® Power Converter 150 KHz 3A Step-Down Voltage Regulator with Features, 7-pin TO-263, Pb-Free; PartNumber: LM2599S-ADJ/NOPB; Manufacturer: National Semiconductor; PackageTopMarking: NSUZXYTTE#*LM2599S*-ADJ P+; PowerWise: N; High-Reliability: Y; DatasheetVersion: Dec-2000; PackageVersion: revE, Jul-2003; PackageReference: TS7B; PackageDescription: TO-263, Molded, .400 x .390 x .180in Body, 7 Lead, .050in Pitch, Surface Mount; RoHS: Y; PinCount: 7; CompType: Switcher; Code_JEDEC: MO-169-AC; ComponentLink1Description: Manufacturer URL; ComponentLink1URL: http://www.national.com/; ComponentLink2Description: LM2599 Datasheet; ComponentLink2URL: http://www.national.com/ds/LM/LM2599.pdf; ComponentLink3Description: LM2599 Web Page; ComponentLink3URL: http://www.national.com/pf/LM/LM2599.html; ComponentLink4Description: TS7B Package Page; ComponentLink4URL: http://www.national.com/packaging/folders/ts7b.html
footprint TS7B_N (D2-PAK, 8-Leads, Body 8.6x10.2mm, Pitch 1.27mm, Lead Span 14.1mm, IPC Medium Density)
footprint TS7B_L (D2-PAK, 8-Leads, Body 8.6x10.2mm, Pitch 1.27mm, Lead Span 14.1mm, IPC High Density)
footprint TS7B_M (D2-PAK, 8-Leads, Body 8.6x10.2mm, Pitch 1.27mm, Lead Span 14.1mm, IPC Low Density)
pins: 1 VIN (power), 2 OUT (power), 3 FLAG (oc), 4 GND (power), 5 DELAY (in), 6 FB (in), 7 ~{SD}/SS (in), 8 TAB (power)

## LM2599SX-3.3
designator U?
SIMPLE SWITCHER® Power Converter 150 KHz 3A Step-Down Voltage Regulator with Features, 7-pin TO-263; PartNumber: LM2599SX-3.3; Manufacturer: National Semiconductor; PackageTopMarking: NSUZXYTTE#*LM2599S*-3.3 P+; PowerWise: N; High-Reliability: Y; DatasheetVersion: Dec-2000; PackageVersion: revE, Jul-2003; PackageReference: TS7B; PackageDescription: TO-263, Molded, .400 x .390 x .180in Body, 7 Lead, .050in Pitch, Surface Mount; RoHS: N; PinCount: 7; CompType: Switcher; Code_JEDEC: MO-169-AC; ComponentLink1Description: Manufacturer URL; ComponentLink1URL: http://www.national.com/; ComponentLink2Description: LM2599 Datasheet; ComponentLink2URL: http://www.national.com/ds/LM/LM2599.pdf; ComponentLink3Description: LM2599 Web Page; ComponentLink3URL: http://www.national.com/pf/LM/LM2599.html; ComponentLink4Description: TS7B Package Page; ComponentLink4URL: http://www.national.com/packaging/folders/ts7b.html
footprint TS7B_N (D2-PAK, 8-Leads, Body 8.6x10.2mm, Pitch 1.27mm, Lead Span 14.1mm, IPC Medium Density)
footprint TS7B_L (D2-PAK, 8-Leads, Body 8.6x10.2mm, Pitch 1.27mm, Lead Span 14.1mm, IPC High Density)
footprint TS7B_M (D2-PAK, 8-Leads, Body 8.6x10.2mm, Pitch 1.27mm, Lead Span 14.1mm, IPC Low Density)
pins: 1 VIN (power), 2 OUT (power), 3 FLAG (oc), 4 GND (power), 5 DELAY (in), 6 FB (in), 7 ~{SD}/SS (in), 8 TAB (power)

## LM2599SX-5.0
designator U?
SIMPLE SWITCHER® Power Converter 150 KHz 3A Step-Down Voltage Regulator with Features, 7-pin TO-263; PartNumber: LM2599SX-5.0; Manufacturer: National Semiconductor; PackageTopMarking: NSUZXYTTE#*LM2599S*-5.0 P+; PowerWise: N; High-Reliability: Y; DatasheetVersion: Dec-2000; PackageVersion: revE, Jul-2003; PackageReference: TS7B; PackageDescription: TO-263, Molded, .400 x .390 x .180in Body, 7 Lead, .050in Pitch, Surface Mount; RoHS: N; PinCount: 7; CompType: Switcher; Code_JEDEC: MO-169-AC; ComponentLink1Description: Manufacturer URL; ComponentLink1URL: http://www.national.com/; ComponentLink2Description: LM2599 Datasheet; ComponentLink2URL: http://www.national.com/ds/LM/LM2599.pdf; ComponentLink3Description: LM2599 Web Page; ComponentLink3URL: http://www.national.com/pf/LM/LM2599.html; ComponentLink4Description: TS7B Package Page; ComponentLink4URL: http://www.national.com/packaging/folders/ts7b.html
footprint TS7B_N (D2-PAK, 8-Leads, Body 8.6x10.2mm, Pitch 1.27mm, Lead Span 14.1mm, IPC Medium Density)
footprint TS7B_L (D2-PAK, 8-Leads, Body 8.6x10.2mm, Pitch 1.27mm, Lead Span 14.1mm, IPC High Density)
footprint TS7B_M (D2-PAK, 8-Leads, Body 8.6x10.2mm, Pitch 1.27mm, Lead Span 14.1mm, IPC Low Density)
pins: 1 VIN (power), 2 OUT (power), 3 FLAG (oc), 4 GND (power), 5 DELAY (in), 6 FB (in), 7 ~{SD}/SS (in), 8 TAB (power)

## LM2599SX-12
designator U?
SIMPLE SWITCHER® Power Converter 150 KHz 3A Step-Down Voltage Regulator with Features, 7-pin TO-263; PartNumber: LM2599SX-12; Manufacturer: National Semiconductor; PackageTopMarking: NSUZXYTTE#*LM2599S*-12 P+; PowerWise: N; High-Reliability: Y; DatasheetVersion: Dec-2000; PackageVersion: revE, Jul-2003; PackageReference: TS7B; PackageDescription: TO-263, Molded, .400 x .390 x .180in Body, 7 Lead, .050in Pitch, Surface Mount; RoHS: N; PinCount: 7; CompType: Switcher; Code_JEDEC: MO-169-AC; ComponentLink1Description: Manufacturer URL; ComponentLink1URL: http://www.national.com/; ComponentLink2Description: LM2599 Datasheet; ComponentLink2URL: http://www.national.com/ds/LM/LM2599.pdf; ComponentLink3Description: LM2599 Web Page; ComponentLink3URL: http://www.national.com/pf/LM/LM2599.html; ComponentLink4Description: TS7B Package Page; ComponentLink4URL: http://www.national.com/packaging/folders/ts7b.html
footprint TS7B_N (D2-PAK, 8-Leads, Body 8.6x10.2mm, Pitch 1.27mm, Lead Span 14.1mm, IPC Medium Density)
footprint TS7B_L (D2-PAK, 8-Leads, Body 8.6x10.2mm, Pitch 1.27mm, Lead Span 14.1mm, IPC High Density)
footprint TS7B_M (D2-PAK, 8-Leads, Body 8.6x10.2mm, Pitch 1.27mm, Lead Span 14.1mm, IPC Low Density)
pins: 1 VIN (power), 2 OUT (power), 3 FLAG (oc), 4 GND (power), 5 DELAY (in), 6 FB (in), 7 ~{SD}/SS (in), 8 TAB (power)

## LM2599SX-ADJ
designator U?
SIMPLE SWITCHER® Power Converter 150 KHz 3A Step-Down Voltage Regulator with Features, 7-pin TO-263; PartNumber: LM2599SX-ADJ; Manufacturer: National Semiconductor; PackageTopMarking: NSUZXYTTE#*LM2599S*-ADJ P+; PowerWise: N; High-Reliability: Y; DatasheetVersion: Dec-2000; PackageVersion: revE, Jul-2003; PackageReference: TS7B; PackageDescription: TO-263, Molded, .400 x .390 x .180in Body, 7 Lead, .050in Pitch, Surface Mount; RoHS: N; PinCount: 7; CompType: Switcher; Code_JEDEC: MO-169-AC; ComponentLink1Description: Manufacturer URL; ComponentLink1URL: http://www.national.com/; ComponentLink2Description: LM2599 Datasheet; ComponentLink2URL: http://www.national.com/ds/LM/LM2599.pdf; ComponentLink3Description: LM2599 Web Page; ComponentLink3URL: http://www.national.com/pf/LM/LM2599.html; ComponentLink4Description: TS7B Package Page; ComponentLink4URL: http://www.national.com/packaging/folders/ts7b.html
footprint TS7B_N (D2-PAK, 8-Leads, Body 8.6x10.2mm, Pitch 1.27mm, Lead Span 14.1mm, IPC Medium Density)
footprint TS7B_L (D2-PAK, 8-Leads, Body 8.6x10.2mm, Pitch 1.27mm, Lead Span 14.1mm, IPC High Density)
footprint TS7B_M (D2-PAK, 8-Leads, Body 8.6x10.2mm, Pitch 1.27mm, Lead Span 14.1mm, IPC Low Density)
pins: 1 VIN (power), 2 OUT (power), 3 FLAG (oc), 4 GND (power), 5 DELAY (in), 6 FB (in), 7 ~{SD}/SS (in), 8 TAB (power)

## LM2599T-3.3
designator U?
SIMPLE SWITCHER® Power Converter 150 KHz 3A Step-Down Voltage Regulator with Features, 7-pin TO-220; PartNumber: LM2599T-3.3; Manufacturer: National Semiconductor; PackageTopMarking: NSUZXYTTE#*LM2599T*-3.3 P+; PowerWise: N; High-Reliability: Y; DatasheetVersion: Dec-2000; PackageVersion: revC, Apr-1999; PackageReference: TA07B; PackageDescription: TO-220, Molded, .400 x .590 x .180in Body, 7 Lead, .050in Pitch, Staggered; RoHS: N; PinCount: 7; CompType: Switcher; Code_JEDEC: TO-220-AB; ComponentLink1Description: Manufacturer URL; ComponentLink1URL: http://www.national.com/; ComponentLink2Description: LM2599 Datasheet; ComponentLink2URL: http://www.national.com/ds/LM/LM2599.pdf; ComponentLink3Description: LM2599 Web Page; ComponentLink3URL: http://www.national.com/pf/LM/LM2599.html; ComponentLink4Description: TA07B Package Page; ComponentLink4URL: http://www.national.com/packaging/folders/ta07b.html
footprint TA07B (TO, Thru-Hole, Vertical, Heatsink Mounted; 7 Bent Staggered Leads; Body 10.2x8.7x4.6mm, Pitch 1.27 mm)
pins: 1 VIN (power), 2 OUT (power), 3 FLAG (oc), 4 GND (power), 5 DELAY (in), 6 FB (in), 7 ~{SD}/SS (in)

## LM2599T-5.0
designator U?
SIMPLE SWITCHER® Power Converter 150 KHz 3A Step-Down Voltage Regulator with Features, 7-pin TO-220; PartNumber: LM2599T-5.0; Manufacturer: National Semiconductor; PackageTopMarking: NSUZXYTTE#*LM2599T*-5.0 P+; PowerWise: N; High-Reliability: Y; DatasheetVersion: Dec-2000; PackageVersion: revC, Apr-1999; PackageReference: TA07B; PackageDescription: TO-220, Molded, .400 x .590 x .180in Body, 7 Lead, .050in Pitch, Staggered; RoHS: N; PinCount: 7; CompType: Switcher; Code_JEDEC: TO-220-AB; ComponentLink1Description: Manufacturer URL; ComponentLink1URL: http://www.national.com/; ComponentLink2Description: LM2599 Datasheet; ComponentLink2URL: http://www.national.com/ds/LM/LM2599.pdf; ComponentLink3Description: LM2599 Web Page; ComponentLink3URL: http://www.national.com/pf/LM/LM2599.html; ComponentLink4Description: TA07B Package Page; ComponentLink4URL: http://www.national.com/packaging/folders/ta07b.html
footprint TA07B (TO, Thru-Hole, Vertical, Heatsink Mounted; 7 Bent Staggered Leads; Body 10.2x8.7x4.6mm, Pitch 1.27 mm)
pins: 1 VIN (power), 2 OUT (power), 3 FLAG (oc), 4 GND (power), 5 DELAY (in), 6 FB (in), 7 ~{SD}/SS (in)

## LM2599T-5.0/NOPB
designator U?
SIMPLE SWITCHER® Power Converter 150 KHz 3A Step-Down Voltage Regulator with Features, 7-pin TO-220, Pb-Free; PartNumber: LM2599T-5.0/NOPB; Manufacturer: National Semiconductor; PackageTopMarking: NSUZXYTTE#*LM2599T*-5.0 P+; PowerWise: N; High-Reliability: Y; DatasheetVersion: Dec-2000; PackageVersion: revC, Apr-1999; PackageReference: TA07B; PackageDescription: TO-220, Molded, .400 x .590 x .180in Body, 7 Lead, .050in Pitch, Staggered; RoHS: Y; PinCount: 7; CompType: Switcher; Code_JEDEC: TO-220-AB; ComponentLink1Description: Manufacturer URL; ComponentLink1URL: http://www.national.com/; ComponentLink2Description: LM2599 Datasheet; ComponentLink2URL: http://www.national.com/ds/LM/LM2599.pdf; ComponentLink3Description: LM2599 Web Page; ComponentLink3URL: http://www.national.com/pf/LM/LM2599.html; ComponentLink4Description: TA07B Package Page; ComponentLink4URL: http://www.national.com/packaging/folders/ta07b.html
footprint TA07B (TO, Thru-Hole, Vertical, Heatsink Mounted; 7 Bent Staggered Leads; Body 10.2x8.7x4.6mm, Pitch 1.27 mm)
pins: 1 VIN (power), 2 OUT (power), 3 FLAG (oc), 4 GND (power), 5 DELAY (in), 6 FB (in), 7 ~{SD}/SS (in)

## LM2599T-12
designator U?
SIMPLE SWITCHER® Power Converter 150 KHz 3A Step-Down Voltage Regulator with Features, 7-pin TO-220; PartNumber: LM2599T-12; Manufacturer: National Semiconductor; PackageTopMarking: NSUZXYTTE#*LM2599T*-12 P+; PowerWise: N; High-Reliability: Y; DatasheetVersion: Dec-2000; PackageVersion: revC, Apr-1999; PackageReference: TA07B; PackageDescription: TO-220, Molded, .400 x .590 x .180in Body, 7 Lead, .050in Pitch, Staggered; RoHS: N; PinCount: 7; CompType: Switcher; Code_JEDEC: TO-220-AB; ComponentLink1Description: Manufacturer URL; ComponentLink1URL: http://www.national.com/; ComponentLink2Description: LM2599 Datasheet; ComponentLink2URL: http://www.national.com/ds/LM/LM2599.pdf; ComponentLink3Description: LM2599 Web Page; ComponentLink3URL: http://www.national.com/pf/LM/LM2599.html; ComponentLink4Description: TA07B Package Page; ComponentLink4URL: http://www.national.com/packaging/folders/ta07b.html
footprint TA07B (TO, Thru-Hole, Vertical, Heatsink Mounted; 7 Bent Staggered Leads; Body 10.2x8.7x4.6mm, Pitch 1.27 mm)
pins: 1 VIN (power), 2 OUT (power), 3 FLAG (oc), 4 GND (power), 5 DELAY (in), 6 FB (in), 7 ~{SD}/SS (in)

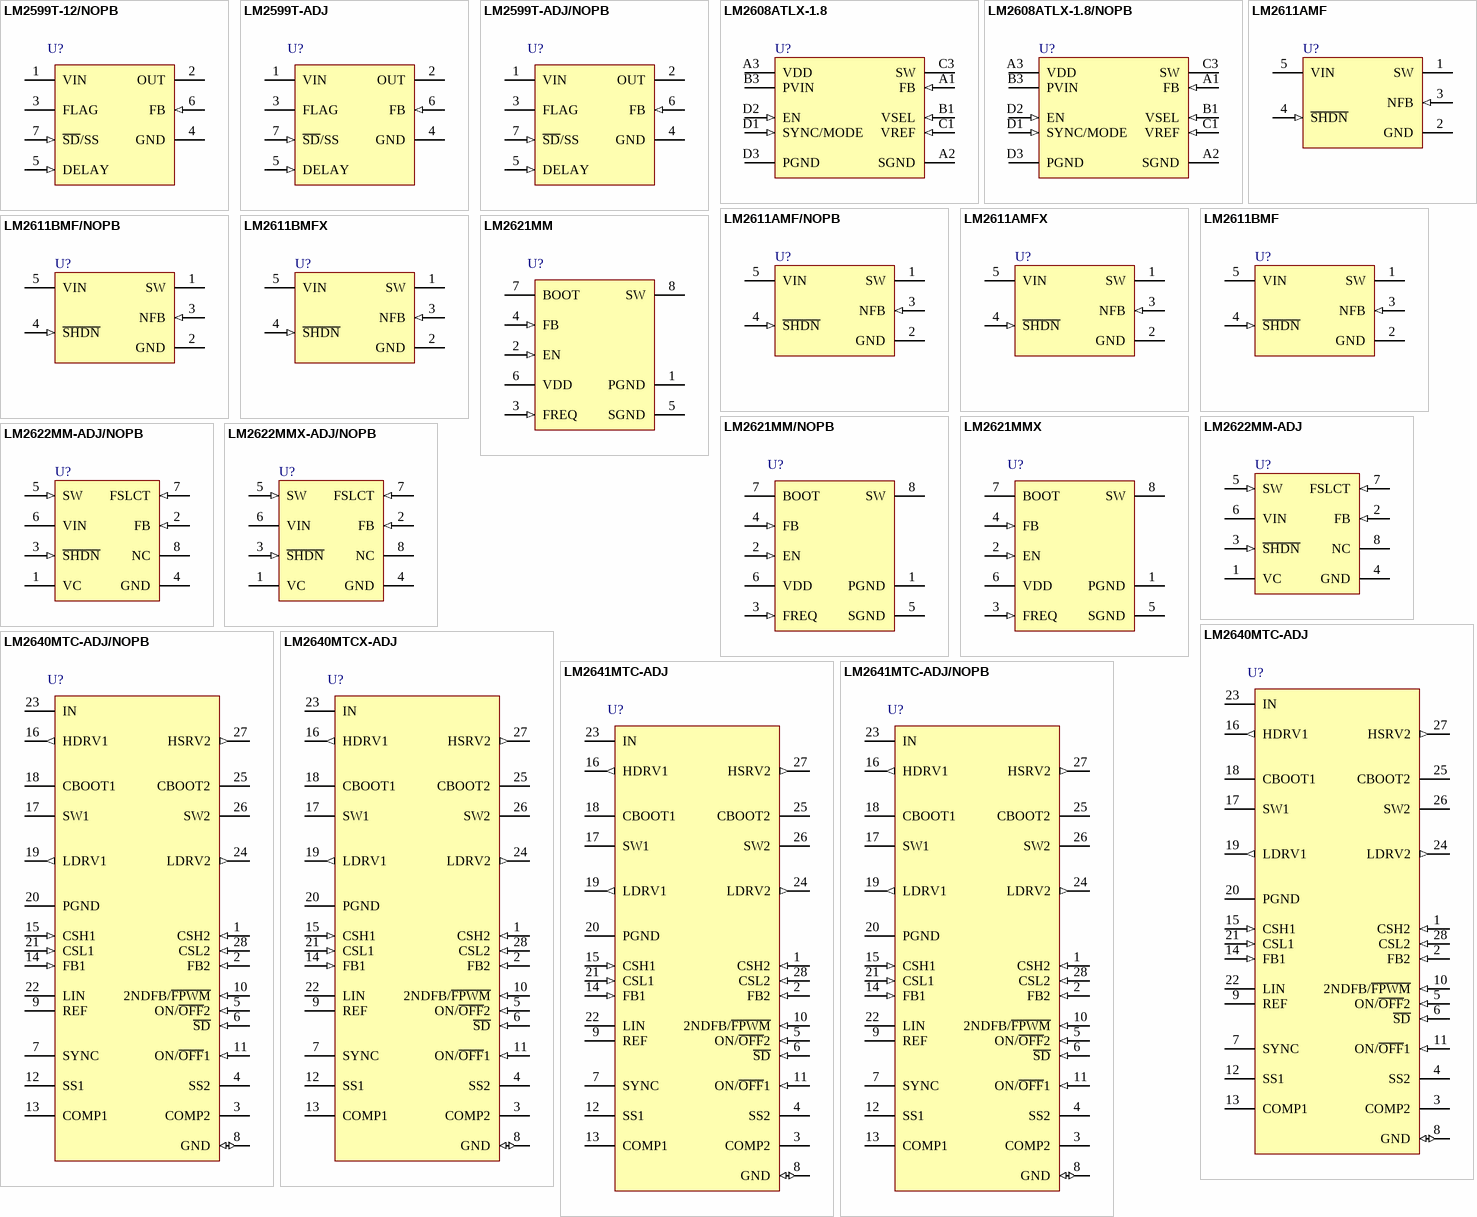
[diagram p13: symbols LM2599T-12/NOPB to LM2641MTC-ADJ/NOPB]